# EAGLE library part 613026243121 (library Wuerth_Elektronik_eiCan_Pin_&_Socked_Headers_v1.3)
WR-PHD Angled Dual Socket Header, 26 Pins
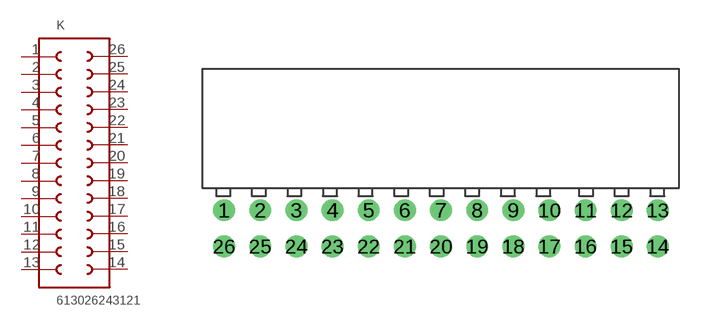
[diagram p176: symbol with the pads of 613026243121; footprint 613026243121]

Designator prefix K

## 613026243121  [613026243121]
1  1  pas
2  2  pas
3  3  pas
4  4  pas
5  5  pas
6  6  pas
7  7  pas
8  8  pas
9  9  pas
10  10  pas
11  11  pas
12  12  pas
13  13  pas
14  14  pas
15  15  pas
16  16  pas
17  17  pas
18  18  pas
19  19  pas
20  20  pas
21  21  pas
22  22  pas
23  23  pas
24  24  pas
25  25  pas
26  26  pas

## Footprint 613026243121 (pad centres in mm)
WR-PHD Angled Dual Socket Header, 26 Pins
drill 1.02 round: 1 -27.94,0; 2 -25.4,0; 3 -22.86,0; 4 -20.32,0; 5 -17.78,0; 6 -15.24,0; 7 -12.7,0; 8 -10.16,0; 9 -7.62,0; 10 -5.08,0; 11 -2.54,0; 12 0,0; 13 2.54,0; 14 2.54,-2.54; 15 0,-2.54; 16 -2.54,-2.54; 17 -5.08,-2.54; 18 -7.62,-2.54; 19 -10.16,-2.54; 20 -12.7,-2.54; 21 -15.24,-2.54; 22 -17.78,-2.54; 23 -20.32,-2.54; 24 -22.86,-2.54; 25 -25.4,-2.54; 26 -27.94,-2.54